# EAGLE library part LD39200 (library Bauteile)
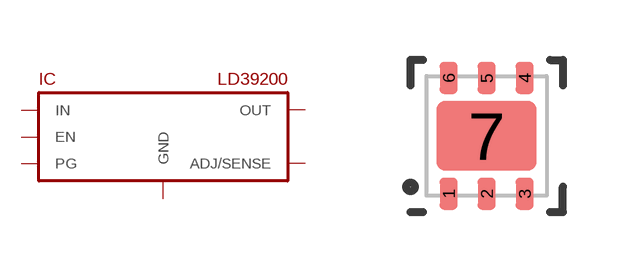
[diagram p126: symbol with the pads of DFN6_3X3; footprint DFN6_3X3]

Designator prefix IC

## LD39200  [DFN6_3X3]
1  OUT
2  ADJ/SENSE
3  GND
4  PG
5  EN
6  IN
7  GND

## Footprint DFN6_3X3 (pad centres in mm)
smd 0.45 x 0.8: 1 -0.95,-1.45; 2 0,-1.45; 3 0.95,-1.45; 4 0.95,1.45; 5 0,1.45; 6 -0.95,1.45
smd 2.5 x 1.75: 7 0,0